# EAGLE library part WS2812B_DIP (library ws2812bDIP)
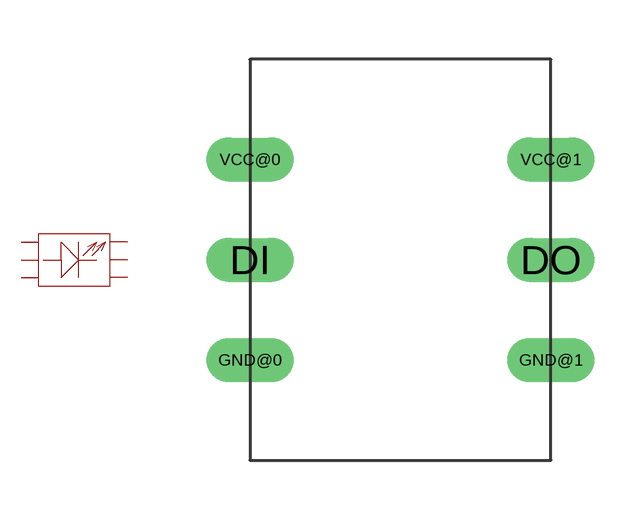
[diagram p0: symbol with the pads of WS2812B_DIP; footprint WS2812B_DIP]

Designator prefix -

## WS2812B_DIP  [WS2812B_DIP]
DI  DI  in
DO  DO  out
GND@0  GND
GND@1  GND
VCC@0  VCC
VCC@1  VCC

## Footprint WS2812B_DIP (pad centres in mm)
drill 0.6 long: DI -3.81,0; DO 3.81,0; GND@0 -3.81,-2.54; GND@1 3.81,-2.54; VCC@0 -3.81,2.54; VCC@1 3.81,2.54